# Altium footprint library PowerPAK_SO-8.PcbLib: 1 footprints
Each footprint in its own frame and in the unit in brackets; x right, y up, seen from the top. Pads: shape width x height; smd on the part's side, far side on the other; paste and mask are expansions set on the pad; w line width, h text height; cw(c..) or ccw(c..) is an arc to the next point about the centre after c.
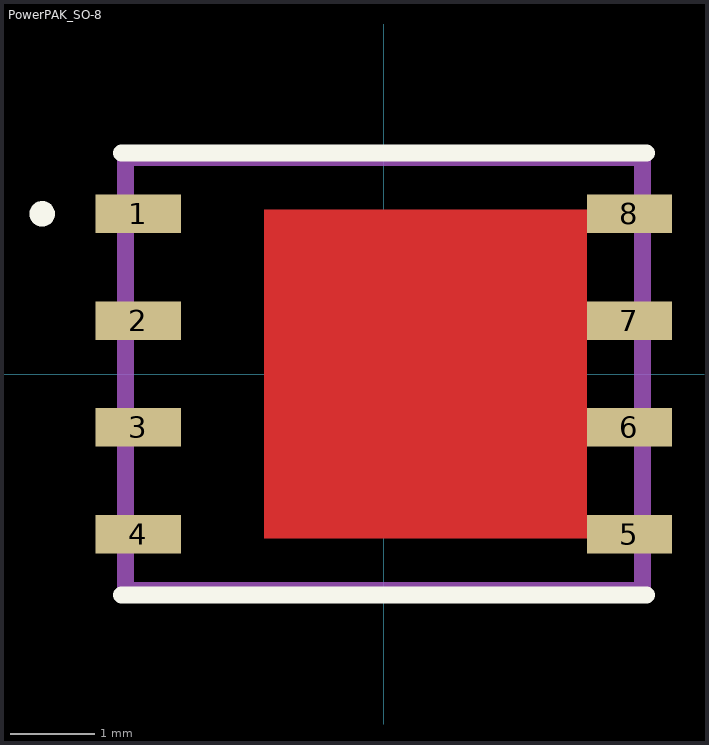
[diagram p0: the footprint, top view; thin cyan lines are the x and y axes]

## PowerPAK_SO-8 [mil]
pads (8):
  rect 40x18 smd paste+0 mask+2.01: 1(-115,75) 2(-115,25) 3(-115,-25) 4(-115,-75) 5(115,-75) 6(115,-25) 7(115,25) 8(115,75)
Top Layer:
  region: 95,-77 95,77 -56,77 -56,-77
Top Overlay:
  circle w6: c-160,75 r3
  lines w7.87: -123,-103.5 123,-103.5 ; -123,103.5 123,103.5
Top Paste:
  region: 95,-77 95,77 -56,77 -56,-77
Top Solder:
  region: 95,-77 95,77 -56,77 -56,-77
Mechanical 13 (Mech13):
  lines w7.87: -121.06,-101.38 -121.06,101.38 121.06,101.38 121.06,-101.38 -121.06,-101.38
Mechanical 15:
  lines w5.91: -19.69,0 0,0 ; 0,-19.69 0,0 ; 0,19.68 0,0 ; 19.68,0 0,0
3D body "POWERPAK_SO-8_SINGLE_VIS.step": height 44.09, standoff 0, extent -122.99,-98.5 122.99,98.5